# Altium footprint library DPAK457P1010X238-3N.PcbLib: 1 footprints
Each footprint in its own frame and in the unit in brackets; x right, y up, seen from the top. Pads: shape width x height; smd on the part's side, far side on the other; paste and mask are expansions set on the pad; w line width, h text height; cw(c..) or ccw(c..) is an arc to the next point about the centre after c.
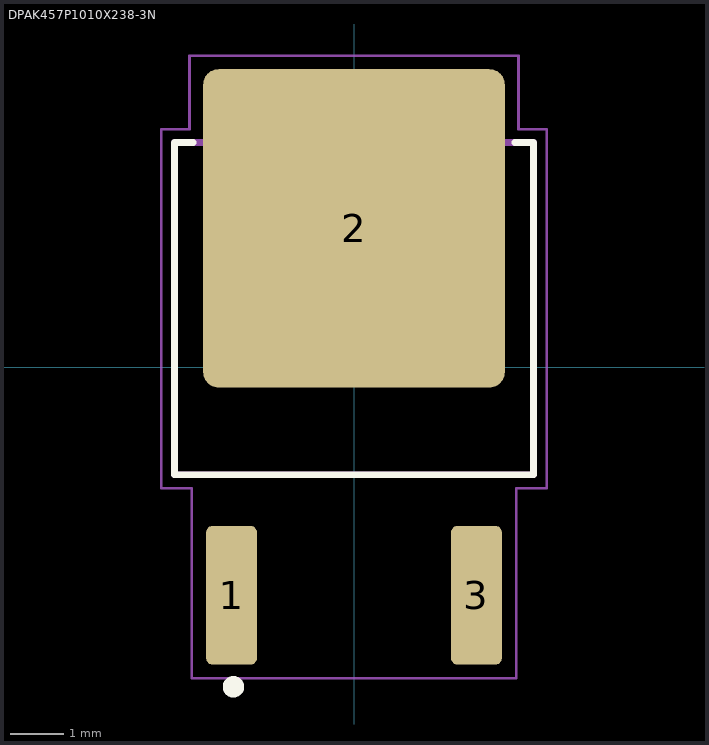
[diagram p0: the footprint, top view; thin cyan lines are the x and y axes]

## DPAK457P1010X238-3N [mm]
pads (3):
  rrect25% 0.95x2.59 smd: 1(-2.286,-4.26) 3(2.286,-4.26)
  rrect10% 5.63x5.94 smd: 2(0,2.59)
Top Overlay:
  circle w0.2: c-2.25,-5.969 r0.1
  lines w0.127: -3,4.19 -3.35,4.19 -3.35,-2.01 3.35,-2.01 3.35,4.19 3,4.19
Mechanical 13:
  lines w0.127: -3.35,-2.01 -3.35,4.19 3.35,4.19 3.35,-2.01 -3.35,-2.01
Mechanical 15:
  lines w0.05: -3.6,-2.26 -3.03,-2.26 -3.03,-5.81 3.03,-5.81 3.03,-2.26 3.6,-2.26 3.6,4.44 3.07,4.44 3.07,5.81 -3.07,5.81 -3.07,4.44 -3.6,4.44 -3.6,-2.26